# Altium footprint library Verdex.PcbLib: 2 footprints
Each footprint in its own frame and in the unit in brackets; x right, y up, seen from the top. Pads: shape width x height; smd on the part's side, far side on the other; paste and mask are expansions set on the pad; w line width, h text height; cw(c..) or ccw(c..) is an arc to the next point about the centre after c.
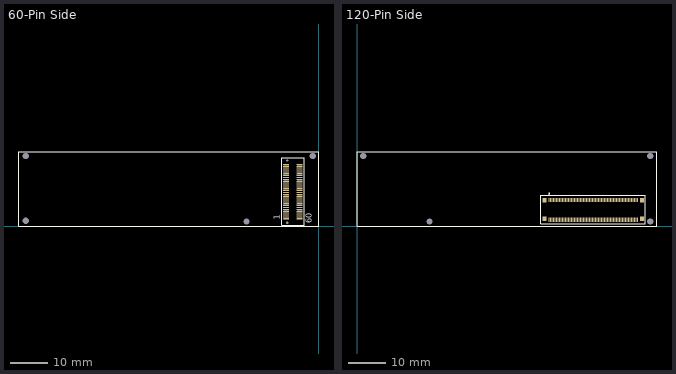
[diagram p0: the footprints below, top view; thin cyan lines are the x and y axes]

## 60-Pin Side [mm]
pads (66):
  oval 1.6x0.3 smd: 1(-8.785,2.021) 2(-8.785,2.521) 3(-8.785,3.021) 4(-8.785,3.521) 5(-8.785,4.021) 6(-8.785,4.521) 7(-8.785,5.021) 8(-8.785,5.521) 9(-8.785,6.021) 10(-8.785,6.521) 11(-8.785,7.021) 12(-8.785,7.521) 13(-8.785,8.021) 14(-8.785,8.521) 15(-8.785,9.021) 16(-8.785,9.521) 17(-8.785,10.021) 18(-8.785,10.521) 19(-8.785,11.021) 20(-8.785,11.521) 21(-8.785,12.021) 22(-8.785,12.521) 23(-8.785,13.021) 24(-8.785,13.521) 25(-8.785,14.021) 26(-8.785,14.521) 27(-8.785,15.021) 28(-8.785,15.521) 29(-8.785,16.021) 30(-8.785,16.521) 31(-5.185,16.521) 32(-5.185,16.021) 33(-5.185,15.521) 34(-5.185,15.021) 35(-5.185,14.521) 36(-5.185,14.021) 37(-5.185,13.521) 38(-5.185,13.021) 39(-5.185,12.521) 40(-5.185,12.021) 41(-5.185,11.521) 42(-5.185,11.021) 43(-5.185,10.521) 44(-5.185,10.021) 45(-5.185,9.521) 46(-5.185,9.021) 47(-5.185,8.521) 48(-5.185,8.021) 49(-5.185,7.521) 50(-5.185,7.021) 51(-5.185,6.521) 52(-5.185,6.021) 53(-5.185,5.521) 54(-5.185,5.021) 55(-5.185,4.521) 56(-5.185,4.021) 57(-5.185,3.521) 58(-5.185,3.021) 59(-5.185,2.521) 60(-5.185,2.021)
  rect 0x0 hole 1.65 unplated: 61(-19.304,1.27)
  round 0 hole 1.65 unplated: 62(-1.651,18.796) 63(-78.232,18.796) 64(-78.232,1.524)
  round 0 hole 0.6 unplated: 65(-8.485,0.971) 66(-8.485,17.571)
Top Overlay:
  lines w0.254: -80.01,0 -80.01,19.939 0,19.939 0,0 -80.01,0 ; -9.985,0.271 -9.985,18.271 -3.985,18.271 -3.985,0.271 -9.985,0.271
  text "1" at -10.485,1.771 h1.52
  text "60" at -1.985,0.771 h1.52
3D body: height 4.06, standoff 3.05, extent -80,0 0,20
3D body: height 3.05, standoff 0, extent -10.033,0.254 -3.937,18.288

## 120-Pin Side [mm]
pads (128):
  oval 0.2x1.15 smd: 1(51.217,7.045) 2(51.617,7.045) 3(52.017,7.045) 4(52.417,7.045) 5(52.817,7.045) 6(53.217,7.045) 7(53.617,7.045) 8(54.017,7.045) 9(54.417,7.045) 10(54.817,7.045) 11(55.217,7.045) 12(55.617,7.045) 13(56.017,7.045) 14(56.417,7.045) 15(56.817,7.045) 16(57.217,7.045) 17(57.617,7.045) 18(58.017,7.045) 19(58.417,7.045) 20(58.817,7.045) 21(59.217,7.045) 22(59.617,7.045) 23(60.017,7.045) 24(60.417,7.045) 25(60.817,7.045) 26(61.217,7.045) 27(61.617,7.045) 28(62.017,7.045) 29(62.417,7.045) 30(62.817,7.045) 31(63.217,7.045) 32(63.617,7.045) 33(64.017,7.045) 34(64.417,7.045) 35(64.817,7.045) 36(65.217,7.045) 37(65.617,7.045) 38(66.017,7.045) 39(66.417,7.045) 40(66.817,7.045) 41(67.217,7.045) 42(67.617,7.045) 43(68.017,7.045) 44(68.417,7.045) 45(68.817,7.045) 46(69.217,7.045) 47(69.617,7.045) 48(70.017,7.045) 49(70.417,7.045) 50(70.817,7.045) 51(71.217,7.045) 52(71.617,7.045) 53(72.017,7.045) 54(72.417,7.045) 55(72.817,7.045) 56(73.217,7.045) 57(73.617,7.045) 58(74.017,7.045) 59(74.417,7.045) 60(74.817,7.045) 61(74.817,1.795) 62(74.417,1.795) 63(74.017,1.795) 64(73.617,1.795) 65(73.217,1.795) 66(72.817,1.795) 67(72.417,1.795) 68(72.017,1.795) 69(71.617,1.795) 70(71.217,1.795) 71(70.817,1.795) 72(70.417,1.795) 73(70.017,1.795) 74(69.617,1.795) 75(69.217,1.795) 76(68.817,1.795) 77(68.417,1.795) 78(68.017,1.795) 79(67.617,1.795) 80(67.217,1.795) 81(66.817,1.795) 82(66.417,1.795) 83(66.017,1.795) 84(65.617,1.795) 85(65.217,1.795) 86(64.817,1.795) 87(64.417,1.795) 88(64.017,1.795) 89(63.617,1.795) 90(63.217,1.795) 91(62.817,1.795) 92(62.417,1.795) 93(62.017,1.795) 94(61.617,1.795) 95(61.217,1.795) 96(60.817,1.795) 97(60.417,1.795) 98(60.017,1.795) 99(59.617,1.795) 100(59.217,1.795) 101(58.817,1.795) 102(58.417,1.795) 103(58.017,1.795) 104(57.617,1.795) 105(57.217,1.795) 106(56.817,1.795) 107(56.417,1.795) 108(56.017,1.795) 109(55.617,1.795) 110(55.217,1.795) 111(54.817,1.795) 112(54.417,1.795) 113(54.017,1.795) 114(53.617,1.795) 115(53.217,1.795) 116(52.817,1.795) 117(52.417,1.795) 118(52.017,1.795) 119(51.617,1.795) 120(51.217,1.795)
  rect 0x0 hole 1.65: ""(1.651,18.796) ""(19.304,1.27) ""(78.232,1.27) ""(78.232,18.796)
  rect 1.1x1.21 smd: ""(49.967,2.02) ""(49.967,6.92) ""(75.967,2.02) ""(75.967,6.92)
Top Overlay:
  circle w0.254: c51.232,8.712 r0.127
  lines w0.203: 0,0 80.01,0 80.01,19.939 0,19.939 0,0 ; 48.997,0.66 76.937,0.66 76.937,8.28 48.997,8.28 48.997,0.66